# Altium footprint library CHERRY_MX_FIX.PcbLib: 1 footprints
Each footprint in its own frame and in the unit in brackets; x right, y up, seen from the top. Pads: shape width x height; smd on the part's side, far side on the other; paste and mask are expansions set on the pad; w line width, h text height; cw(c..) or ccw(c..) is an arc to the next point about the centre after c.
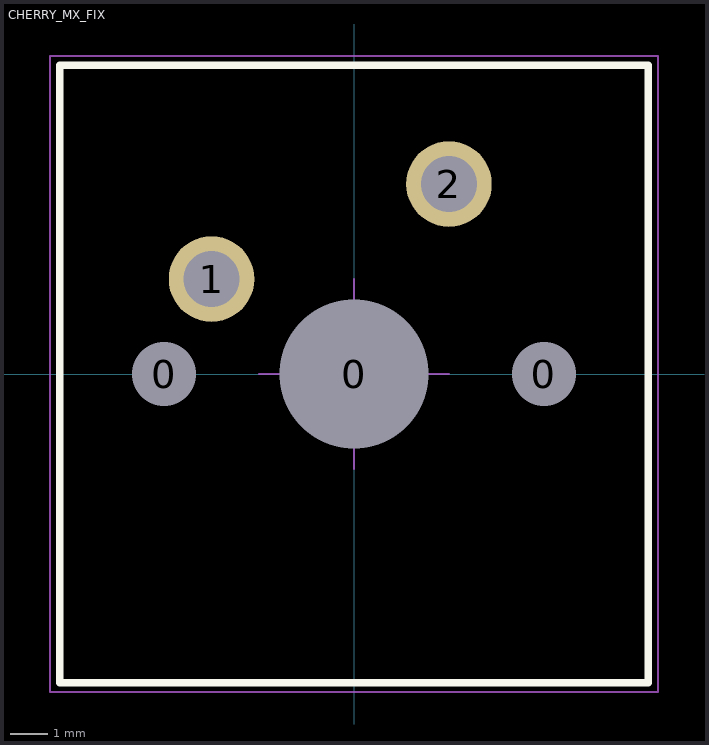
[diagram p0: the footprint, top view; thin cyan lines are the x and y axes]

## CHERRY_MX_FIX [mil]
pads (5):
  round 60 hole 67: 0(-200,0) 0(200,0)
  round 60 hole 157: 0(0,0)
  round 90 hole 59: 1(-150,100) 2(100,200)
Top Overlay:
  lines w7.87: -310,-325 310,-325 310,325 -310,325 -310,-325
Mechanical 15:
  lines w1.97: -100,0 0,0 ; 0,-100 0,0 ; 0,100 0,0 ; 100,0 0,0 ; -320,-335 320,-335 320,335 -320,335 -320,-335
3D body "cherry mx.STEP": height 616.14, standoff -86.61, extent -307.87,-321.46 307.87,321.46